# Altium integrated library LTM8074IY_PBF.IntLib: 1 symbol
Pins are listed as number, name and electrical type; pins without a type are passive.

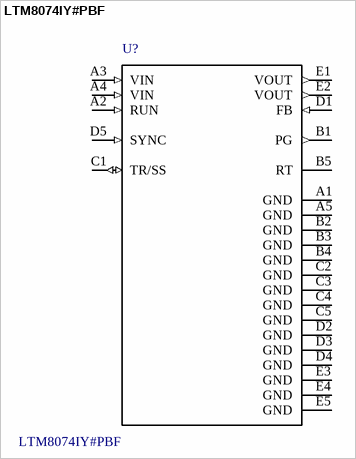
[diagram p0: symbol LTM8074IY#PBF]

## LTM8074IY#PBF
designator U?
/ 40Vin, 0.7A Step Dwn uModule Reg /; MF: Analog Devices; SnapEDA_Link: https://www.snapeda.com/parts/LTM8074IY%23PBF/Analog%20Devices/view-part/4335081/?ref=snap; Availability: Unavailable; Package: BGA -25 Analog Devices; Price: None; MP: LTM8074IY#PBF; Value: *
footprint *BGA25C65P5X5_400X400X198N_LTM8074IY#PBF(Primary)
pins: A1 GND (power), A2 RUN (in), A3 VIN (in), A4 VIN (in), A5 GND (power), B1 PG (out), B2 GND (power), B3 GND (power), B4 GND (power), B5 RT, C1 TR/SS (io), C2 GND (power), C3 GND (power), C4 GND (power), C5 GND (power), D1 FB (in), D2 GND (power), D3 GND (power), D4 GND (power), D5 SYNC (in), E1 VOUT (out), E2 VOUT (out), E3 GND (power), E4 GND (power), E5 GND (power)